# Altium schematic symbol library Schottky Diode.SchLib: 1 symbol
Pins are listed as number, name and electrical type; pins without a type are passive.

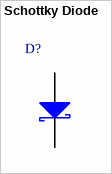
[diagram p0: symbol Schottky Diode]

## Schottky Diode
designator D?
pins: 1 A, 2 K